# EAGLE library part 74LVC161 (library 1_spektrak)
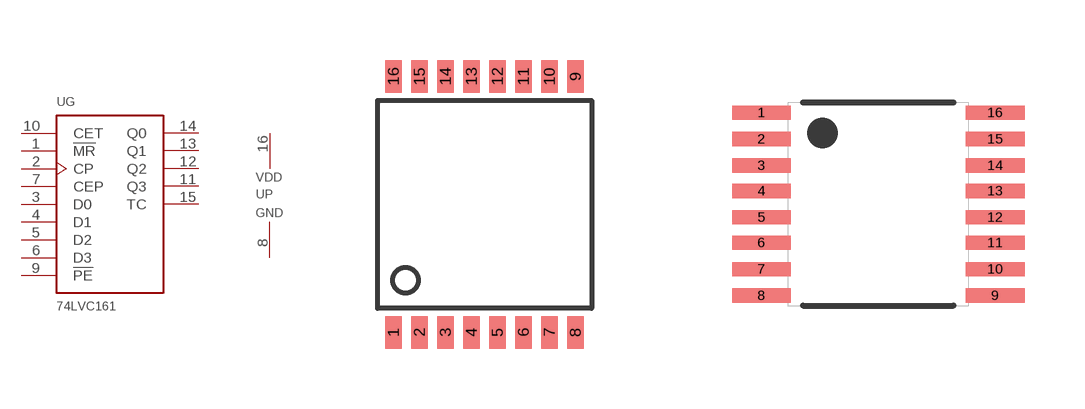
[diagram p11: symbol with the pads of SOT403_4B_COUNTER; footprints SOT403_4B_COUNTER, TSSOP16]

Designator prefix U; gates G=74LVC161 P=PWRGND

## 74LVC161'OLD'  [SOT403_4B_COUNTER]
1  G:!MR  in
2  G:CP  in
3  G:D0  in
4  G:D1  in
5  G:D2  in
6  G:D3  in
7  G:CEP  in
8  P:GND  pwr
9  G:!PE  in
10  G:CET  in
11  G:Q3  out
12  G:Q2  out
13  G:Q1  out
14  G:Q0  out
15  G:TC  out
16  P:VDD  pwr

## 74LVC161  [TSSOP16]
Pads as for SOT403_4B_COUNTER

## Footprint SOT403_4B_COUNTER (pad centres in mm)
smd 0.406 x 0.813: 1 -2.1,-3.2; 2 -1.45,-3.2; 3 -0.8,-3.2; 4 -0.15,-3.2; 5 0.5,-3.2; 6 1.15,-3.2; 7 1.8,-3.2; 8 2.45,-3.2; 9 2.45,3.2; 10 1.8,3.2; 11 1.15,3.2; 12 0.5,3.2; 13 -0.15,3.2; 14 -0.8,3.2; 15 -1.45,3.2; 16 -2.1,3.2

## Footprint TSSOP16 (pad centres in mm)
smd 1.473 x 0.356: 1 -2.921,2.286; 2 -2.921,1.626; 3 -2.921,0.965; 4 -2.921,0.33; 5 -2.921,-0.33; 6 -2.921,-0.965; 7 -2.921,-1.626; 8 -2.921,-2.286; 9 2.921,-2.286; 10 2.921,-1.626; 11 2.921,-0.965; 12 2.921,-0.33; 13 2.921,0.33; 14 2.921,0.965; 15 2.921,1.626; 16 2.921,2.286